# EAGLE library part VACUUM (library example-lib)
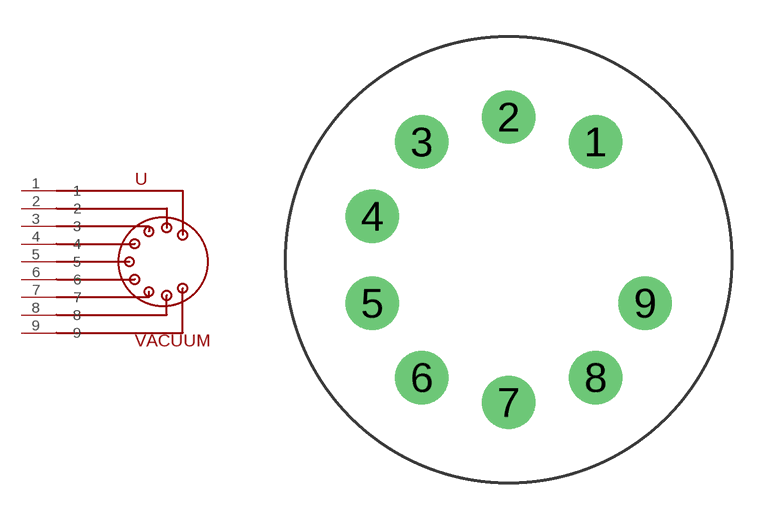
[diagram p1: symbol with the pads of TH9; footprint TH9]

Designator prefix -

## VACUUM-TH  [TH9]
1  1
2  2
3  3
4  4
5  5
6  6
7  7
8  8
9  9

## Footprint TH9 (pad centres in mm)
drill 1.1 pad 2.184: 1 3.556,4.826; 2 0,5.842; 3 -3.556,4.826; 4 -5.588,1.778; 5 -5.588,-1.778; 6 -3.556,-4.826; 7 0,-5.842; 8 3.556,-4.826; 9 5.588,-1.778